# Altium footprint library MiniUSB.PcbLib: 1 footprints
Each footprint in its own frame and in the unit in brackets; x right, y up, seen from the top. Pads: shape width x height; smd on the part's side, far side on the other; paste and mask are expansions set on the pad; w line width, h text height; cw(c..) or ccw(c..) is an arc to the next point about the centre after c.
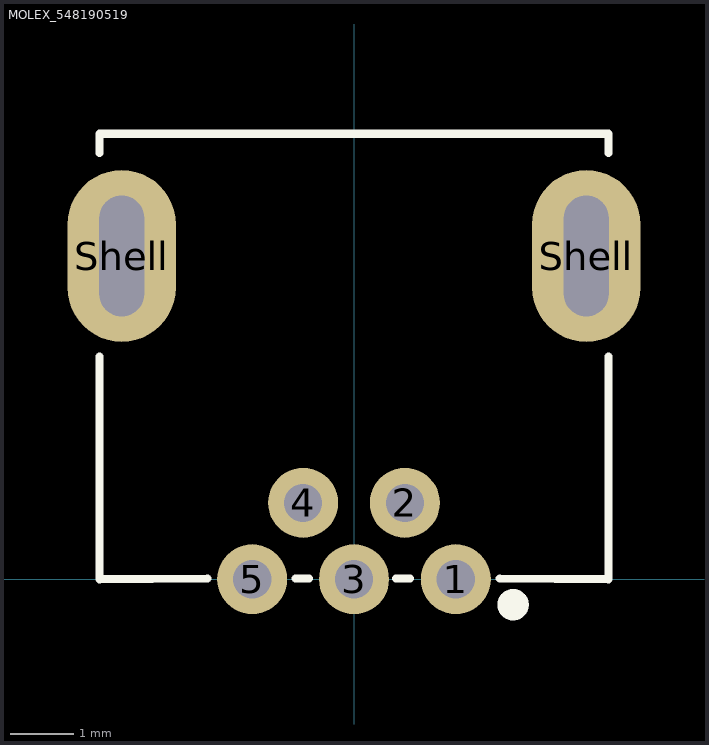
[diagram p0: the footprint, top view; thin cyan lines are the x and y axes]

## MOLEX_548190519 [mm] "5 pins"
height 3.9
pads (7):
  round 1.1 hole 0.6: 1(1.6,0) 2(0.8,1.2) 3(0,0) 4(-0.8,1.2) 5(-1.6,0)
  oval 1.7x2.7 hole 0.7 slot 1.9 at 90 deg: Shell(-3.65,5.08) Shell(3.65,5.08)
Top Overlay:
  circle w0.254: c2.5,-0.4 r0.12
  lines w0.127: -4,3.5 -4,0 -2.3,0.01 ; -4,6.7 -4,7 4,7 4,6.7 ; -0.92,0.01 -0.71,0.01 ; 0.66,0.01 0.88,0.01 ; 2.29,0.01 4,0 4,3.5
3D body "651005136521.stp": height 3.91, standoff -2.59, extent -4.075,-0.125 4.075,8.7